# EAGLE library part M12-5 (library Conec)
http://media.digikey.com/pdf/Data%20Sheets/Conec%20PDFs/43-01208-11_Dwg.pdf
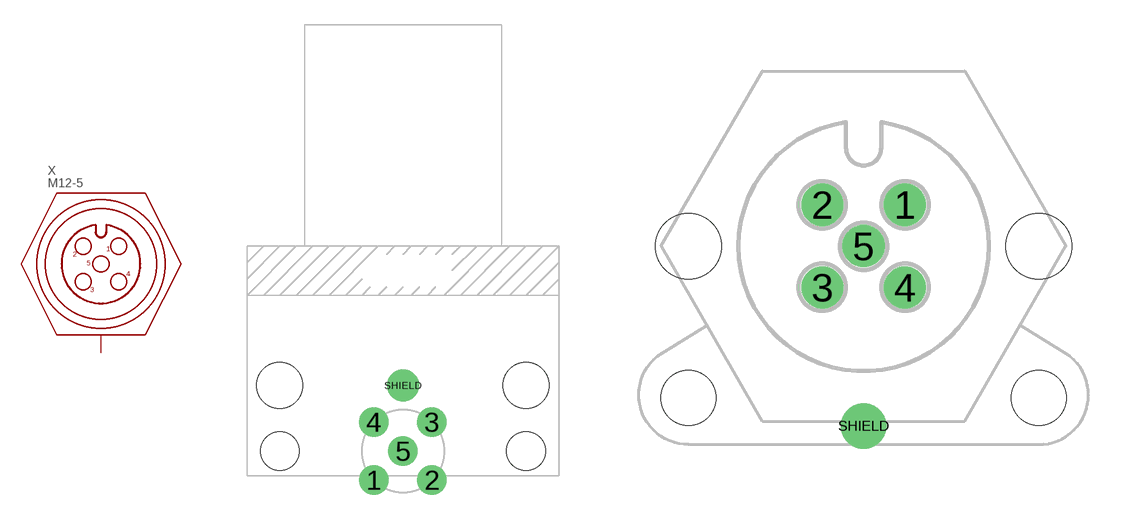
[diagram p0: symbol with the pads of M12-RA-PCB; footprints M12-RA-PCB, M12-VERT-PCB]

Designator prefix X

## M12-5-RA-PCB-MALE (PARTNO: 43-01211)  [M12-RA-PCB]
1  1  pas
2  2  pas
3  3  pas
4  4  pas
5  5  pas
SHIELD  SHIELD  pas

## M12-5-VERT-PCB-MALE (PARTNO: 43-01169)  [M12-VERT-PCB]
Pads as for M12-RA-PCB

## M12-5-RA-B2B (BOM: EXCLUDE)  [M12-RA-PCB_NO_PEGS]
Pads as for M12-RA-PCB

## Footprint M12-RA-PCB (pad centres in mm)
M12-5 circular connector - panel mount, right angle, male pins Conec part number: 43-01211 Datasheet: http://media.digikey.com/pdf/Data%20Sheets/Conec%20PDFs/43-01208-11_Dwg.pdf
drill 1.2 round: 1 -1.768,-1.768; 2 1.768,-1.768; 3 1.768,1.768; 4 -1.768,1.768; 5 0,0
drill 1.3 round: SHIELD 0,4
hole 2.35 at 7.5,0
hole 2.35 at -7.5,0
hole 2.8 at -7.5,4
hole 2.8 at 7.5,4

## Footprint M12-VERT-PCB (pad centres in mm)
Conec 43-01169 - M12-5 circular connector, male pins, vertical PCB mount Datasheet:http://media.digikey.com/pdf/Data%20Sheets/Conec%20PDFs/43-01166-69_Dwg.pdf
drill 1.2 round: 1 1.768,1.768; 2 -1.768,1.768; 3 -1.768,-1.768; 4 1.768,-1.768; 5 0,0
drill 1.3 round: SHIELD 0,-7.7
hole 2.8 at 7.5,0
hole 2.8 at -7.5,0
hole 2.35 at 7.5,-6.5
hole 2.35 at -7.5,-6.5

## Footprint M12-RA-PCB_NO_PEGS (pad centres in mm)
This package is for a custom application - it will not fit any actual connector M12-5 circular connector - panel mount, right angle, male pins Conec part number: 43-01211 Datasheet: http://media.digikey.com/pdf/Data%20Sheets/Conec%20PDFs/43-01208-11_Dwg.pdf
drill 1.2 round: 1 -1.768,-1.768; 2 1.768,-1.768; 3 1.768,1.768; 4 -1.768,1.768; 5 0,0
drill 1.3 round: SHIELD 0,4